# Altium schematic symbol library VL53L0X.Schlib: 1 symbol
Pins are listed as number, name and electrical type; pins without a type are passive.

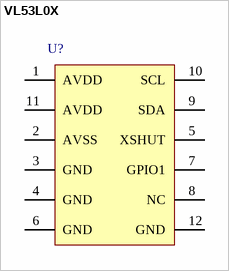
[diagram p0: symbol VL53L0X]

## VL53L0X
designator U?  (value not drawn)
ToF Ranging Sensor
pins: 1 AVDD, 2 AVSS, 3 GND, 4 GND, 5 XSHUT, 6 GND, 7 GPIO1, 8 NC, 9 SDA, 10 SCL, 11 AVDD, 12 GND